# EAGLE library part 2092-1426/200-000 (library con-wago_5.0 mm)
Serie 2092, Stiftleiste mit abgewinkelten Lötstiften 6-polig THR/ Series 2092, Male header with angled solder pins 6-pole THR Polzahl / Pole No.: 6 Rastermaß / Pitch: 5 mm Bemessungsspannung / Rated Voltage: 320 V Nennstrom / Nominal Current: 16 A Lötstiftlänge: / Solder Pin Length: 2.4 mm Farbe / Color: lichtgrau / light gray Stand: 01.01.2013. Die jeweils aktuellen Daten zu diesem Artikel finden Sie in unserem Produktkatalog, den Sie unter www.wago.com einsehen können. As of: 01/01/2013. Please find the newest data for this article in our product catalogue, which can be viewed under www.wago.com.
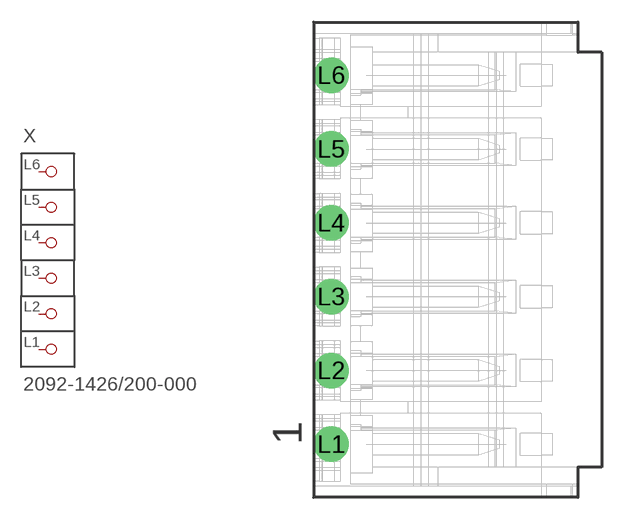
[diagram p9: symbol with the pads of P-2092-1426/200-000; footprint P-2092-1426/200-000]

Designator prefix X

## 2092-1426/200-000  [P-2092-1426/200-000]
L1  P1
L2  P2
L3  P3
L4  P4
L5  P5
L6  P6

## Footprint P-2092-1426/200-000 (pad centres in mm)
drill 1.6 pad 2 round: L1 -8.55,-12.5; L2 -8.55,-7.5; L3 -8.55,-2.5; L4 -8.55,2.5; L5 -8.55,7.5; L6 -8.55,12.5